# EAGLE library part LCMXO2-256*SG32 (library ELL-i-DigitalIC)
MachXO2-256 in 32-pin QFN package. Lattice MachXO2-series FPGA in a 32-pin QFN package, 0.5 mm pitch. Datasheet <http://www.latticesemi.com/~/media/Documents/DataSheets/MachXO23/MachXO2FamilyDataSheet.pdf> (DS1035) .
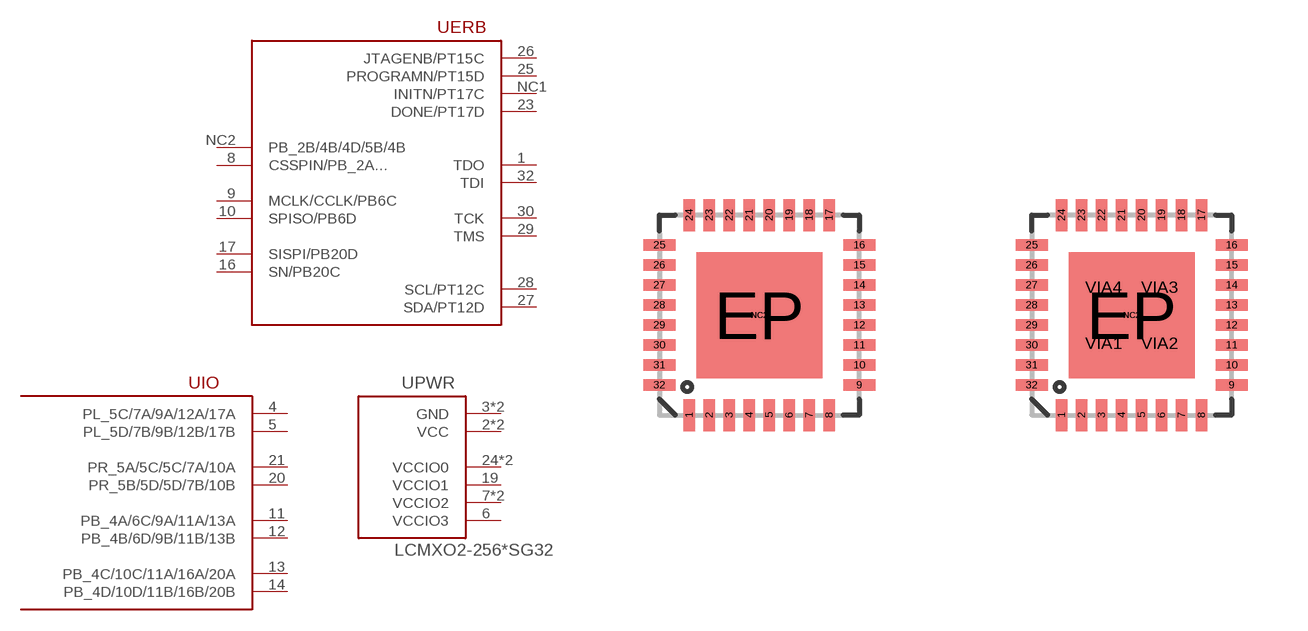
[diagram p8: symbol with the pads of QFN-32; footprints QFN-32, QFN-32-PAD-VIAS]

Designator prefix U; gates IO=MACHXO2-QFN32-256 ERB=MACHXO2-ERB PWR=MACHXO2-QFN32-PWR

## LCMXO2-256HC-4SG32, LCMXO2-256HC-5SG32, LCMXO2-256HC-6SG32, LCMXO2-256HE-4SG32, LCMXO2-256HE-5SG32, LCMXO2-256HE-6SG32, LCMXO2-256ZE-1SG32, LCMXO2-256ZE-2SG32, LCMXO2-256ZE-3SG32  [QFN-32]
1  ERB:TDO
2  PWR:VCC
3  PWR:GND
4  IO:PL_5C/7A/9A/12A/17A
5  IO:PL_5D/7B/9B/12B/17B
6  PWR:VCCIO3
7  PWR:VCCIO2
8  ERB:CSSPIN/PB_2A...
9  ERB:MCLK/CCLK/PB6C
10  ERB:SPISO/PB6D
11  IO:PB_4A/6C/9A/11A/13A
12  IO:PB_4B/6D/9B/11B/13B
13  IO:PB_4C/10C/11A/16A/20A
14  IO:PB_4D/10D/11B/16B/20B
15  PWR:VCCIO2
16  ERB:SN/PB20C
17  ERB:SISPI/PB20D
18  PWR:VCC
19  PWR:VCCIO1
20  IO:PR_5B/5D/5D/7B/10B
21  IO:PR_5A/5C/5C/7A/10A
22  PWR:GND
23  ERB:DONE/PT17D
24  PWR:VCCIO0
25  ERB:PROGRAMN/PT15D
26  ERB:JTAGENB/PT15C
27  ERB:SDA/PT12D
28  ERB:SCL/PT12C
29  ERB:TMS
30  ERB:TCK
31  PWR:VCCIO0
32  ERB:TDI
NC1  ERB:INITN/PT17C
NC2  ERB:PB_2B/4B/4D/5B/4B

## LCMXO2-256SG32-V  [QFN-32-PAD-VIAS]
1  ERB:TDO
2  PWR:VCC
3  PWR:GND
4  IO:PL_5C/7A/9A/12A/17A
5  IO:PL_5D/7B/9B/12B/17B
6  PWR:VCCIO3
7  PWR:VCCIO2
8  ERB:CSSPIN/PB_2A...
9  ERB:MCLK/CCLK/PB6C
10  ERB:SPISO/PB6D
11  IO:PB_4A/6C/9A/11A/13A
12  IO:PB_4B/6D/9B/11B/13B
13  IO:PB_4C/10C/11A/16A/20A
14  IO:PB_4D/10D/11B/16B/20B
15  PWR:VCCIO2
16  ERB:SN/PB20C
17  ERB:SISPI/PB20D
18  PWR:VCC
19  PWR:VCCIO1
20  IO:PR_5B/5D/5D/7B/10B
21  IO:PR_5A/5C/5C/7A/10A
22  PWR:GND
23  ERB:DONE/PT17D
24  PWR:VCCIO0
25  ERB:PROGRAMN/PT15D
26  ERB:JTAGENB/PT15C
27  ERB:SDA/PT12D
28  ERB:SCL/PT12C
29  ERB:TMS
30  ERB:TCK
31  PWR:VCCIO0
32  ERB:TDI
EP  PWR:GND
NC1  ERB:INITN/PT17C
NC2  ERB:PB_2B/4B/4D/5B/4B
VIA1  PWR:GND
VIA2  PWR:GND
VIA3  PWR:GND
VIA4  PWR:GND

## Footprint QFN-32 (pad centres in mm)
QFN 32-Pin package w/ Thermal Pad Note: Unproven! Note that this package has two "phantom" pad in the middle of it, i.e. a pads whose size is 0.00x0.00 mm, and who are named as NC (not connected). This avoids us from having two different ERP symbols. Copied from SparkFun-DigitalIC.lbr
smd 0.285 x 0.8: 1 -1.75,-2.5; 2 -1.25,-2.5; 3 -0.75,-2.5; 4 -0.25,-2.5; 5 0.25,-2.5; 6 0.75,-2.5; 7 1.25,-2.5; 8 1.75,-2.5; 17 1.75,2.5; 18 1.25,2.5; 19 0.75,2.5; 20 0.25,2.5; 21 -0.25,2.5; 22 -0.75,2.5; 23 -1.25,2.5; 24 -1.75,2.5
smd 0.8 x 0.285: 9 2.5,-1.75; 10 2.5,-1.25; 11 2.5,-0.75; 12 2.5,-0.25; 13 2.5,0.25; 14 2.5,0.75; 15 2.5,1.25; 16 2.5,1.75; 25 -2.5,1.75; 26 -2.5,1.25; 27 -2.5,0.75; 28 -2.5,0.25; 29 -2.5,-0.25; 30 -2.5,-0.75; 31 -2.5,-1.25; 32 -2.5,-1.75
smd 3.15 x 3.15: EP 0,0
smd 0 x 0: NC1 0,0; NC2 0,0

## Footprint QFN-32-PAD-VIAS (pad centres in mm)
smd 0.285 x 0.8: 1 -1.75,-2.5; 2 -1.25,-2.5; 3 -0.75,-2.5; 4 -0.25,-2.5; 5 0.25,-2.5; 6 0.75,-2.5; 7 1.25,-2.5; 8 1.75,-2.5; 17 1.75,2.5; 18 1.25,2.5; 19 0.75,2.5; 20 0.25,2.5; 21 -0.25,2.5; 22 -0.75,2.5; 23 -1.25,2.5; 24 -1.75,2.5
smd 0.8 x 0.285: 9 2.5,-1.75; 10 2.5,-1.25; 11 2.5,-0.75; 12 2.5,-0.25; 13 2.5,0.25; 14 2.5,0.75; 15 2.5,1.25; 16 2.5,1.75; 25 -2.5,1.75; 26 -2.5,1.25; 27 -2.5,0.75; 28 -2.5,0.25; 29 -2.5,-0.25; 30 -2.5,-0.75; 31 -2.5,-1.25; 32 -2.5,-1.75
smd 3.15 x 3.15: EP 0,0
smd 0 x 0: NC1 0,0; NC2 0,0
drill 0.4: VIA1 -0.7,-0.7; VIA2 0.7,-0.7; VIA3 0.7,0.7; VIA4 -0.7,0.7